# Altium schematic symbol library Schlib_YXC.SchLib: 8 symbols
Pins are listed as number, name and electrical type; pins without a type are passive.

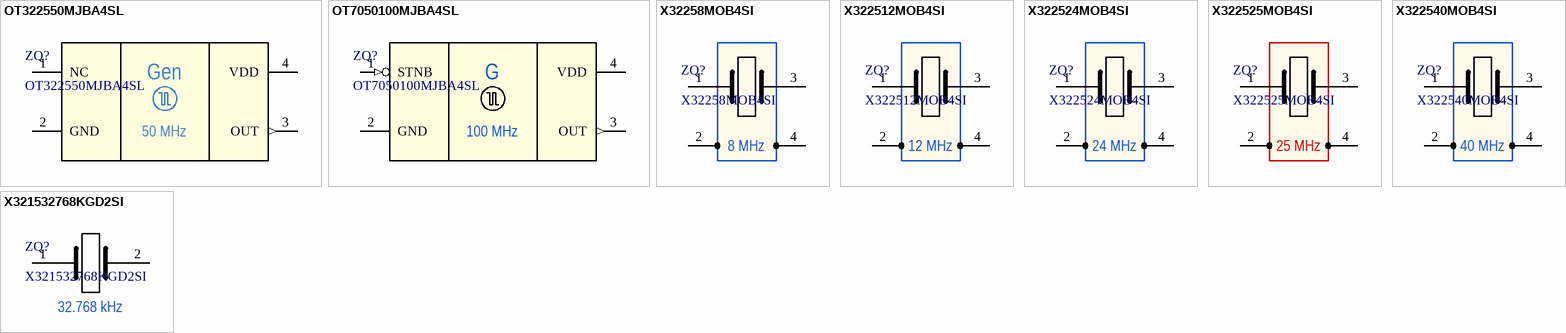
[diagram p0: symbols OT322550MJBA4SL to X321532768KGD2SI]

## OT322550MJBA4SL
designator ZQ?
Clock Oscillator (Frequency Stability ±10ppm); Manufacturer: YXC; Supply Voltage Nom: 1.8..3.3V; Part Number: OT322550MJBA4SL; Package: SMD3225; Frequency Stability: 10ppm
footprint SMD3225
pins: 1 NC (hiz), 2 GND (power), 3 OUT (out), 4 VDD (power)
text: Gen; 50 MHz

## OT7050100MJBA4SL
designator ZQ?
Quartz Crystal Oscillator YSO110TR; Manufacturer: YXC; Part Number: OT7050100MJBA4SL; Package: SMD7050
footprint SMD7050
pins: 1 STNB (in), 2 GND (power), 3 OUT (out), 4 VDD (power)
text: G; 100 MHz

## X32258MOB4SI
designator ZQ?
Quartz Crystal 8 MHz; Manufacturer: YXC; Load Capacitance: 12 pF; Frequency Tolerance: ±20ppm; Frequency Stability: ±30ppm; ESR (Equivalent Series Resistance): 70 Ohms; Operating Mode: Fundamental; Part Number: X32258MOB4SI; Package: SMD3225
footprint SMD3225
pins: 1 XTAL0, 2 GND (power), 3 XTAL1, 4 GND (power)
text: 8 MHz

## X322512MOB4SI
designator ZQ?
Quartz Crystal 12 MHz; Manufacturer: YXC; Load Capacitance: 12 pF; Frequency Tolerance: ±20ppm; Frequency Stability: ±30ppm; ESR (Equivalent Series Resistance): 70 Ohms; Operating Mode: Fundamental; Part Number: X322512MOB4SI; Package: SMD3225
footprint SMD3225
pins: 1 XTAL0, 2 GND (power), 3 XTAL1, 4 GND (power)
text: 12 MHz

## X322524MOB4SI
designator ZQ?
Quartz Crystal 24 MHz; Manufacturer: YXC; Load Capacitance: 12 pF; Frequency Tolerance: ±20ppm; Frequency Stability: ±30ppm; ESR (Equivalent Series Resistance): 70 Ohms; Operating Mode: Fundamental; Part Number: X322524MOB4SI; Package: SMD3225
footprint SMD3225
pins: 1 XTAL0, 2 GND (power), 3 XTAL1, 4 GND (power)
text: 24 MHz

## X322525MOB4SI
designator ZQ?
Quartz Crystal 25 MHz; Manufacturer: YXC; Load Capacitance: 12 pF; Frequency Tolerance: ±10ppm; Frequency Stability: ±30ppm; ESR (Equivalent Series Resistance): 70 Ohms; Operating Mode: Fundamental; Part Number: X322525MOB4SI; Package: SMD3225
footprint SMD3225
pins: 1 XTAL0, 2 GND (power), 3 XTAL1, 4 GND (power)
text: 25 MHz

## X322540MOB4SI
designator ZQ?
Quartz Crystal 40 MHz; Manufacturer: YXC; Load Capacitance: 12 pF; Frequency Tolerance: ±20ppm; Frequency Stability: ±30ppm; ESR (Equivalent Series Resistance): 70 Ohms; Operating Mode: Fundamental; Part Number: X322540MOB4SI; Package: SMD3225
footprint SMD3225
pins: 1 XTAL0, 2 GND (power), 3 XTAL1, 4 GND (power)
text: 40 MHz

## X321532768KGD2SI
designator ZQ?
Quartz Crystal 32768 Hz; Manufacturer: YXC; Load Capacitance: 12.5 pF; Frequency Tolerance: ±20ppm; Frequency Stability: ±30ppm; ESR (Equivalent Series Resistance): 70 Ohms; Operating Mode: Fundamental; Part Number: X321532768KGD2SI; Package: SMD3215
footprint YST310S
pins: 1 XTAL0, 2 XTAL1
text: 32.768 kHz